# EAGLE library part SI1553CDL (library 06_FET)
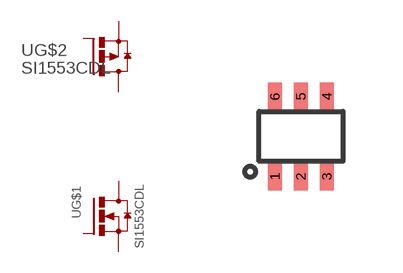
[diagram p0: symbol with the pads of SOT363; footprint SOT363]

Designator prefix -; gates G$1=N_MOSFET G$2=P_MOSFET

## SI1553CDL  [SOT363]
1  G$1:S  pas
2  G$1:G  pas
3  G$2:D  pas
4  G$2:S  pas
5  G$2:G  pas
6  G$1:D  pas

## Footprint SOT363 (pad centres in mm)
smd 0.35 x 0.7: 1 -0.65,-1; 2 0,-1; 3 0.65,-1; 4 0.65,1; 5 0,1; 6 -0.65,1